# EAGLE library part TESTING_ADXL335-PATRICK (library ADXL335_Breakout)
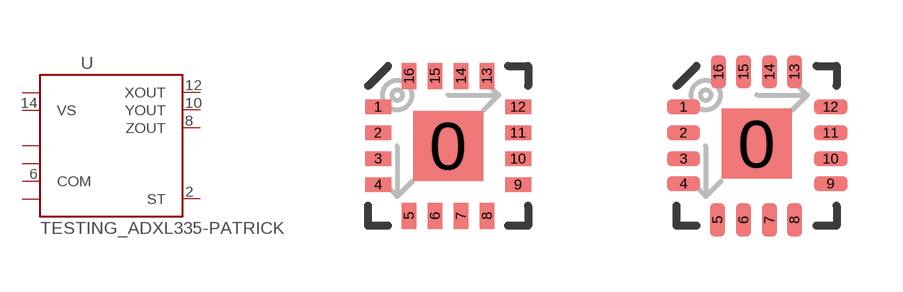
[diagram p1: symbol with the pads of TESTING_LFCSP-16; footprints TESTING_LFCSP-16, TESTING_ADXL335-P]

Designator prefix U

## TESTING_ADXL335-PATRICK  [TESTING_LFCSP-16]
2  ST
3  COM
5  COM
6  COM
7  COM
8  ZOUT
10  YOUT
12  XOUT
14  VS
15  VS

## TESTING_ADXL335-PATRICK""  [TESTING_ADXL335-P]
Pads as for TESTING_LFCSP-16

## Footprint TESTING_LFCSP-16 (pad centres in mm)
smd 1.75 x 1.75: 0 0,0
smd 0.65 x 0.37: 1 -1.75,0.975; 2 -1.75,0.325; 3 -1.75,-0.325; 4 -1.75,-0.975; 9 1.75,-0.975; 10 1.75,-0.325; 11 1.75,0.325; 12 1.75,0.975
smd 0.37 x 0.65: 5 -0.975,-1.75; 6 -0.325,-1.75; 7 0.325,-1.75; 8 0.975,-1.75; 13 0.975,1.75; 14 0.325,1.75; 15 -0.325,1.75; 16 -0.975,1.75

## Footprint TESTING_ADXL335-P (pad centres in mm)
smd 1.75 x 1.75: 0 0,0.051
smd 0.838 x 0.37: 1 -1.826,0.975; 2 -1.826,0.325; 3 -1.826,-0.325; 4 -1.826,-0.95; 9 1.852,-0.95; 10 1.852,-0.325; 11 1.852,0.325; 12 1.852,0.975
smd 0.37 x 0.838: 5 -0.975,-1.852; 6 -0.325,-1.852; 7 0.325,-1.852; 8 0.95,-1.852; 13 0.95,1.852; 14 0.325,1.852; 15 -0.325,1.852; 16 -0.95,1.852